# EAGLE library part GPS_FGPMMOPA6B (library adafruit_Gil)
FGPMMOPA6B 16x16x0.6mm GPS Module NMEA Sentences: GGA, GSA, GSV, RMC, VTG General Specifications Chipset: MTK MT3329 Baud Rate: 9600bps (default) Update Rate: 1Hz (default) Cold Start: ~35s Operating Temp: -40 to 85°C DC Characteristics Supply Voltage: 3.2-5.0V Backup Battery Voltage: 2.0-4.3V Digital Logic (UART): 3.3V I(Tracking): 42mA I(Acquisition): 53mA I(BackupBattery): 10uA
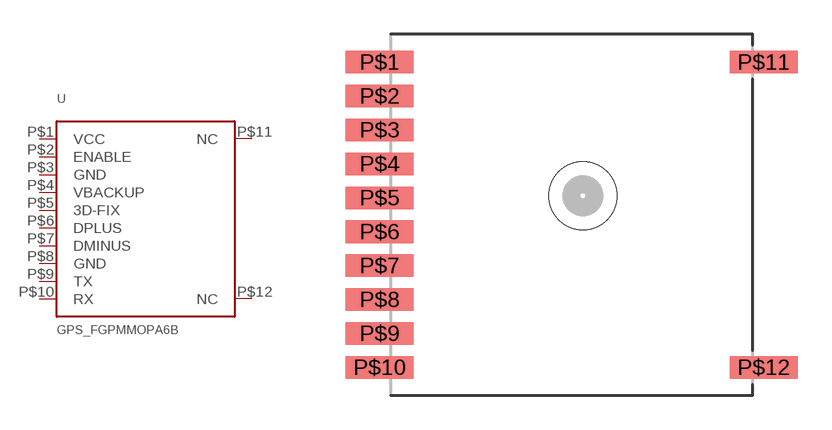
[diagram p80: symbol with the pads of FGPMMOPA6B; footprint FGPMMOPA6B]

Designator prefix U

## GPS_FGPMMOPA6B  [FGPMMOPA6B]
P$1  VCC
P$2  ENABLE
P$3  GND
P$4  VBACKUP
P$5  3D-FIX
P$6  DPLUS
P$7  DMINUS
P$8  GND
P$9  TX
P$10  RX
P$11  NC
P$12  NC

## Footprint FGPMMOPA6B (pad centres in mm)
smd 3 x 1: P$1 -8.5,6.75; P$2 -8.5,5.25; P$3 -8.5,3.75; P$4 -8.5,2.25; P$5 -8.5,0.75; P$6 -8.5,-0.75; P$7 -8.5,-2.25; P$8 -8.5,-3.75; P$9 -8.5,-5.25; P$10 -8.5,-6.75; P$11 8.5,6.75; P$12 8.5,-6.75
hole 3 at 0.5,0.85